# EAGLE library part BM07B-SRSS-TB (library Con_JST_SH)
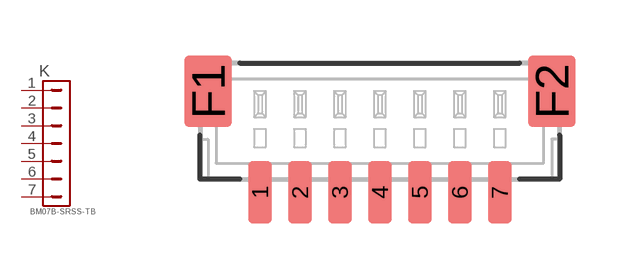
[diagram p1: symbol with the pads of BM07B-SRSS-TB; footprint BM07B-SRSS-TB]

Designator prefix K

## BM07B-SRSS-TB  [BM07B-SRSS-TB]
1  1  pas
2  2  pas
3  3  pas
4  4  pas
5  5  pas
6  6  pas
7  7  pas

## Footprint BM07B-SRSS-TB (pad centres in mm)
smd 0.6 x 1.55: 1 -3,-1.325; 2 -2,-1.325; 3 -1,-1.325; 4 0,-1.325; 5 1,-1.325; 6 2,-1.325; 7 3,-1.325
smd 1.2 x 1.8: F1 -4.3,1.2; F2 4.3,1.2